# Altium footprint library inductor 7850.PcbLib: 2 footprints
Each footprint in its own frame and in the unit in brackets; x right, y up, seen from the top. Pads: shape width x height; smd on the part's side, far side on the other; paste and mask are expansions set on the pad; w line width, h text height; cw(c..) or ccw(c..) is an arc to the next point about the centre after c.
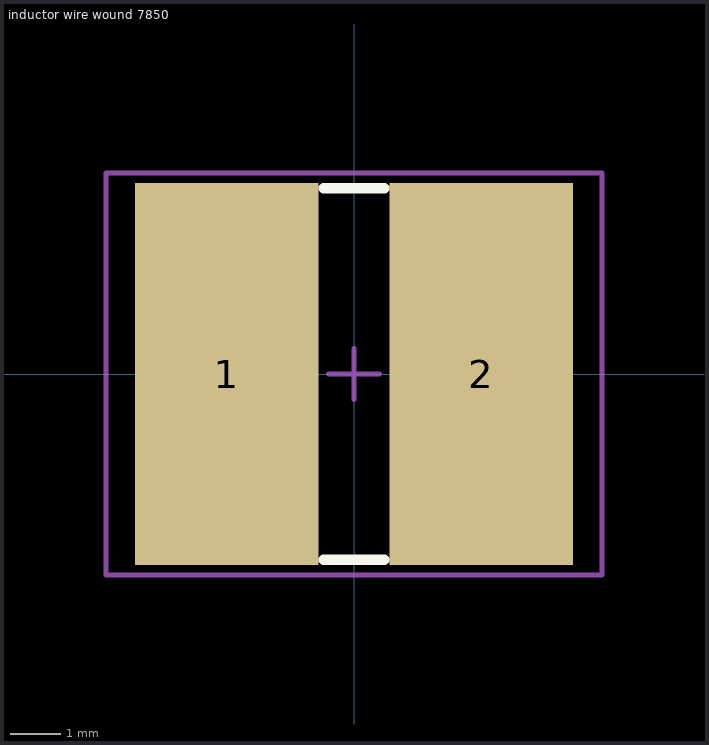
[diagram p0: the footprints below, top view; thin cyan lines are the x and y axes]

## inductor wire wound 7850 [mm] "Precision Wire Wound Inductor, 2-Leads, Body 7.8x7.0mm, IPC Medium Density"
height 5.5
pads (2):
  rect 3.6x7.5 smd: 1(-2.5,0) 2(2.5,0)
Top Overlay:
  lines w0.2: -0.6,-3.65 0.6,-3.65 ; -0.6,3.65 0.6,3.65
Mechanical 13:
  lines w0.1: -4.05,-3.65 4.05,-3.65 4.05,3.65 -4.05,3.65 -4.05,-3.65
Mechanical 15:
  lines w0.1: -0.5,0 0.5,0 ; 0,-0.5 0,0.5 ; -4.875,-3.95 4.875,-3.95 4.875,3.95 -4.875,3.95 -4.875,-3.95
3D body: height 5.5, standoff 0, extent -4.018,-4.042 4.05,4.042

## PCBComponent_1 - duplicate [mm]